# Altium footprint library TI-SOT-SC70 (DCK).PcbLib: 1 footprints
Each footprint in its own frame and in the unit in brackets; x right, y up, seen from the top. Pads: shape width x height; smd on the part's side, far side on the other; paste and mask are expansions set on the pad; w line width, h text height; cw(c..) or ccw(c..) is an arc to the next point about the centre after c.
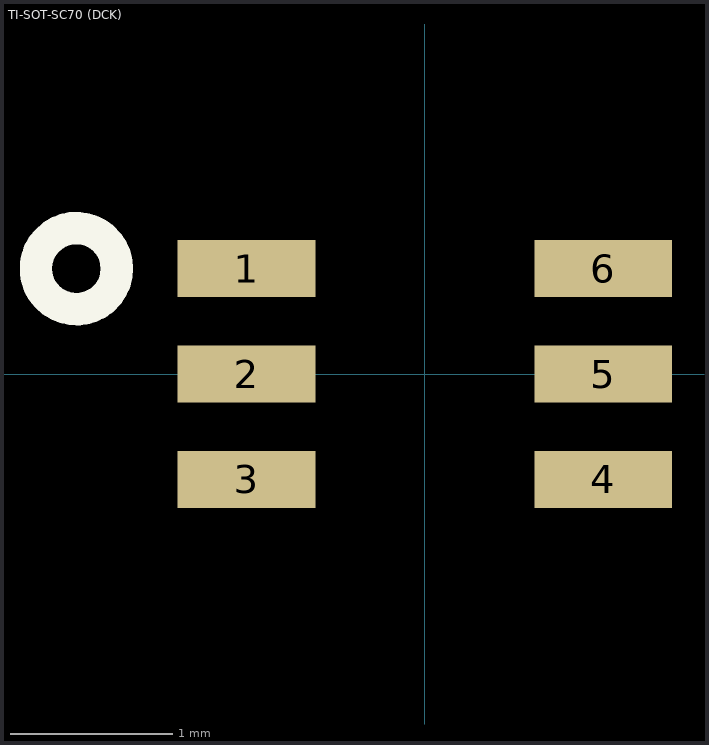
[diagram p0: the footprint, top view; thin cyan lines are the x and y axes]

## TI-SOT-SC70 (DCK) [mm] "IC CURR SENSE 1 CIRCUIT SC70-6"
height 0.95
pads (6):
  rect 0.85x0.35 smd: 1(-1.1,0.65) 2(-1.1,0) 3(-1.1,-0.65) 4(1.1,-0.65) 5(1.1,0) 6(1.1,0.65)
Top Overlay:
  circle w0.2: c-2.15,0.65 r0.25
3D body "DCK0006A.stp": height 1, standoff 0, extent -1.05,-1 1.05,1